# Altium footprint library Analog_Project_pcblib.PrjPcb.PcbLib: 46 footprints (part 1 of 3)
Each footprint in its own frame and in the unit in brackets; x right, y up, seen from the top. Pads: shape width x height; smd on the part's side, far side on the other; paste and mask are expansions set on the pad; w line width, h text height; cw(c..) or ccw(c..) is an arc to the next point about the centre after c.
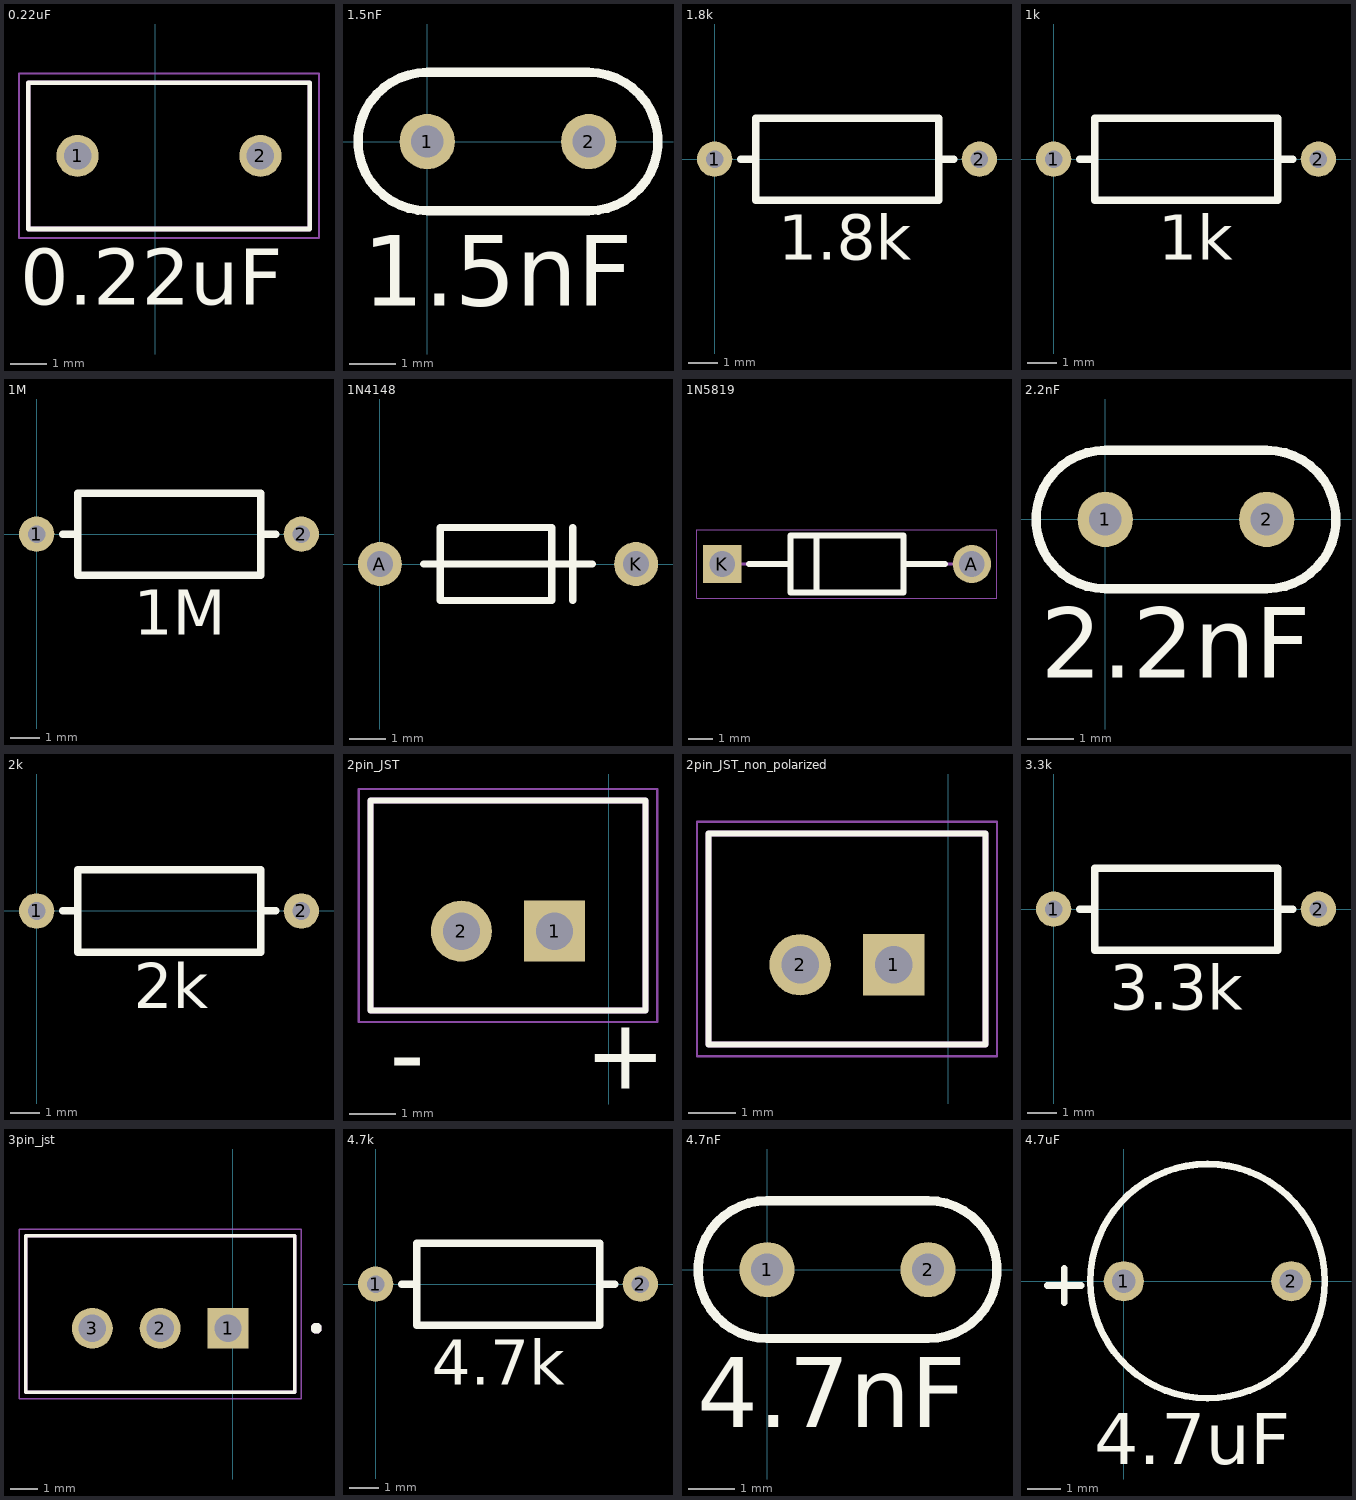
[diagram p0: the footprints below, top view; thin cyan lines are the x and y axes]

## 0.22uF [mm]
pads (2):
  round 1.15 hole 0.75: 1(-2.119,-29.718) 2(2.881,-29.718)
Top Overlay:
  lines w0.127: -3.469,-31.718 -3.469,-27.718 4.231,-27.718 4.231,-31.718 -3.469,-31.718
  text "0.22uF" at -3.683,-33.782 h1.52
Mechanical 13:
  lines w0.127: -3.469,-31.718 4.231,-31.718 4.231,-27.718 -3.469,-27.718 -3.469,-31.718
Mechanical 15:
  lines w0.05: -3.719,-31.968 4.481,-31.968 4.481,-27.468 -3.719,-27.468 -3.719,-31.968

## 1.5nF [mm]
pads (2):
  round 1.2 hole 0.7: 1(0,0) 2(3.5,0)
Top Overlay:
  lines w0.2: 0,-1.5 cw(c0,0) 0,1.5 3.5,1.5 cw(c3.5,0) 3.5,-1.5 0,-1.5
  text "1.5nF" at -1.397,-3.556 h1.52

## 1.8k [mm]
pads (2):
  round 1.2 hole 0.6: 1(0,0) 2(9,0)
Top Overlay:
  lines w0.254: 0.889,0 1.397,0 ; 7.62,0 8.128,0 ; 1.397,0 1.397,1.397 7.62,1.397 7.62,-1.397 1.397,-1.397 1.397,0
  text "1.8k" at 2.159,-3.429 h1.52

## 1k [mm]
pads (2):
  round 1.2 hole 0.6: 1(0,0) 2(9,0)
Top Overlay:
  lines w0.254: 0.889,0 1.397,0 ; 7.62,0 8.128,0 ; 1.397,0 1.397,1.397 7.62,1.397 7.62,-1.397 1.397,-1.397 1.397,0
  text "1k" at 3.556,-3.429 h1.52

## 1M [mm]
pads (2):
  round 1.2 hole 0.6: 1(0,0) 2(9,0)
Top Overlay:
  lines w0.254: 0.889,0 1.397,0 ; 7.62,0 8.128,0 ; 1.397,0 1.397,1.397 7.62,1.397 7.62,-1.397 1.397,-1.397 1.397,0
  text "1M" at 3.302,-3.429 h1.52

## 1N4148 [mm]
pads (2):
  round 1.2 hole 0.7: A(0,0) K(7,0)
Top Overlay:
  lines w0.2: 1.2,0 4.699,0 ; 3.225,0 5.8,0 ; 5.266,-1 5.266,1 ; 4.699,0 4.699,-1 1.651,-1 1.651,1 4.699,1 4.699,0

## 1N5819 [mm]
pads (2):
  round 1.59 hole 1.06: A(39.343,-19.05)
  rect 1.59x1.59 / inner round 1.59 / far side rect 1.59x1.59 hole 1.06: K(28.983,-19.05)
Top Overlay:
  lines w0.254: 30.098,-19.05 31.813,-19.05 ; 32.893,-20.193 32.893,-17.907 ; 38.228,-19.05 36.513,-19.05 ; 31.813,-19.05 31.813,-20.225 36.513,-20.225 36.513,-19.05 ; 31.813,-19.05 31.813,-17.875 36.513,-17.875 36.513,-19.05
Mechanical 13:
  lines w0.127: 28.983,-19.05 31.813,-19.05 ; 39.343,-19.05 36.513,-19.05 ; 31.813,-19.05 31.813,-17.875 36.513,-17.875 36.513,-19.05 ; 31.813,-19.05 31.813,-20.225 36.513,-20.225 36.513,-19.05
Mechanical 15:
  lines w0.05: 27.938,-20.475 27.938,-17.625 40.388,-17.625 40.388,-20.475 27.938,-20.475
3D body "step_temp.STEP": height 2.8, standoff -15.3, extent 28.618,-20.45 39.708,-17.65

## 2.2nF [mm]
pads (2):
  round 1.2 hole 0.7: 1(0,0) 2(3.5,0)
Top Overlay:
  lines w0.2: 0,-1.5 cw(c0,0) 0,1.5 3.5,1.5 cw(c3.5,0) 3.5,-1.5 0,-1.5
  text "2.2nF" at -1.397,-3.429 h1.52

## 2k [mm]
pads (2):
  round 1.2 hole 0.6: 1(0,0) 2(9,0)
Top Overlay:
  lines w0.254: 0.889,0 1.397,0 ; 7.62,0 8.128,0 ; 1.397,0 1.397,-1.397 7.62,-1.397 7.62,1.397 1.397,1.397 1.397,0
  text "2k" at 3.302,-3.302 h1.52

## 2pin_JST [mm]
pads (2):
  rect 1.308x1.308 / inner round 1.308 / far side rect 1.308x1.308 hole 0.8: 1(-1.159,-10.71)
  round 1.308 hole 0.8: 2(-3.159,-10.71)
Top Overlay:
  lines w0.127: -5.109,-12.41 0.791,-12.41 0.791,-7.91 -5.109,-7.91 -5.109,-12.41
  text "+" at -0.508,-14.097 h1.52
  text "-" at -4.699,-14.097 h1.52
Mechanical 13:
  lines w0.127: -5.109,-12.41 -5.109,-7.91 0.791,-7.91 0.791,-12.41 -5.109,-12.41
Mechanical 15:
  lines w0.05: -5.359,-12.66 -5.359,-7.66 1.041,-7.66 1.041,-12.66 -5.359,-12.66
3D body "step_temp.STEP": height 6, standoff -3.4, extent -5.109,-12.41 0.791,-7.91

## 2pin_JST_non_polarized [mm]
pads (2):
  rect 1.308x1.308 / inner round 1.308 / far side rect 1.308x1.308 hole 0.8: 1(-1.159,-10.71)
  round 1.308 hole 0.8: 2(-3.159,-10.71)
Top Overlay:
  lines w0.127: -5.109,-12.41 -5.109,-7.91 0.791,-7.91 0.791,-12.41 -5.109,-12.41
Mechanical 13:
  lines w0.127: -5.109,-12.41 0.791,-12.41 0.791,-7.91 -5.109,-7.91 -5.109,-12.41
Mechanical 15:
  lines w0.05: -5.359,-12.66 1.041,-12.66 1.041,-7.66 -5.359,-7.66 -5.359,-12.66
3D body "step_temp.STEP": height 6, standoff -3.4, extent -5.109,-12.41 0.791,-7.91

## 3.3k [mm]
pads (2):
  round 1.2 hole 0.6: 1(0,0) 2(9,0)
Top Overlay:
  lines w0.254: 0.889,0 1.397,0 ; 7.62,0 8.128,0 ; 1.397,0 1.397,1.397 7.62,1.397 7.62,-1.397 1.397,-1.397 1.397,0
  text "3.3k" at 1.905,-3.429 h1.52

## 3pin_jst [mm]
pads (3):
  rect 1.508x1.508 / inner round 1.508 / far side rect 1.508x1.508 hole 1: 1(-0.167,-19.067)
  round 1.508 hole 1: 2(-2.667,-19.067) 3(-5.167,-19.067)
Top Overlay:
  circle w0.2: c3.083,-19.067 r0.1
  lines w0.127: -7.617,-21.417 2.283,-21.417 2.283,-15.667 -7.617,-15.667 -7.617,-21.417
Mechanical 13:
  circle w0.2: c3.083,-19.067 r0.1
  lines w0.127: -7.617,-21.417 2.283,-21.417 2.283,-15.667 -7.617,-15.667 -7.617,-21.417
Mechanical 15:
  lines w0.05: -7.867,-21.667 2.533,-21.667 2.533,-15.417 -7.867,-15.417 -7.867,-21.667
3D body "step_temp.STEP": height 7, standoff -3.4, extent -7.617,-21.417 2.283,-15.667

## 4.7k [mm]
pads (2):
  round 1.2 hole 0.6: 1(0,0) 2(9,0)
Top Overlay:
  lines w0.254: 0.889,0 1.397,0 ; 7.62,0 8.128,0 ; 1.397,0 1.397,1.397 7.62,1.397 7.62,-1.397 1.397,-1.397 1.397,0
  text "4.7k" at 1.905,-3.429 h1.52

## 4.7nF [mm]
pads (2):
  round 1.2 hole 0.7: 1(0,0) 2(3.5,0)
Top Overlay:
  lines w0.2: 0,-1.5 cw(c0,0) 0,1.5 3.5,1.5 cw(c3.5,0) 3.5,-1.5 0,-1.5
  text "4.7nF" at -1.524,-3.429 h1.52

## 4.7uF [mm]
height 9
pads (2):
  round 1.2 hole 0.7: 1(0,0) 2(5,0)
Top Overlay:
  circle w0.2: c2.5,0 r3.5
  lines w0.2: -2.286,-0.127 -1.27,-0.127 ; -1.778,-0.635 -1.778,0.381
  text "4.7uF" at -0.889,-5.461 h1.52